# Altium footprint library MODULE_AC2DC.PcbLib: 3 footprints
Each footprint in its own frame and in the unit in brackets; x right, y up, seen from the top. Pads: shape width x height; smd on the part's side, far side on the other; paste and mask are expansions set on the pad; w line width, h text height; cw(c..) or ccw(c..) is an arc to the next point about the centre after c.
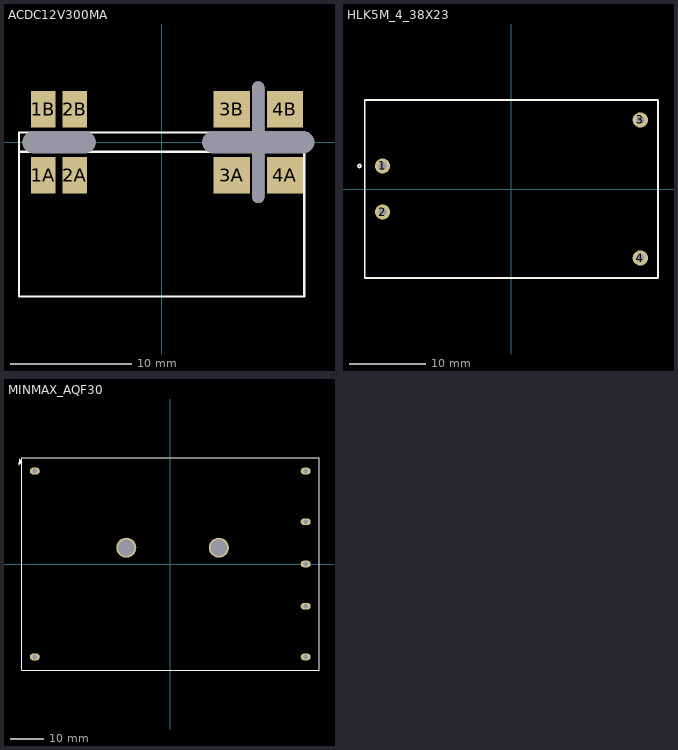
[diagram p0: the footprints below, top view; thin cyan lines are the x and y axes]

## ACDC12V300MA [mm] "ACDC, 12V, 300mA"
height 18
pads (11):
  rect 2x3 all layers, no hole: 1A(-9.75,-2.7) 1B(-9.75,2.7) 2A(-7.15,-2.7) 2B(-7.15,2.7)
  rect 3x3 all layers, no hole: 3A(5.75,-2.7) 3B(5.75,2.7) 4A(10.15,-2.7) 4B(10.15,2.7)
  oval 6x1.8 hole 1.8 slot 6 at 0 deg unplated: ""(-8.45,0)
  oval 1x10 hole 1 slot 10 at 90 deg unplated: ""(7.95,0)
  oval 9.2x1.8 hole 1.8 slot 9.2 at 0 deg unplated: ""(7.95,0)
Top Overlay:
  lines w0.2: -11.75,-0.8 11.75,-0.8 ; 11.75,-0.1 11.75,0 ; -11.75,-12.7 -11.75,0.8 11.75,0.8 11.75,-12.7 -11.75,-12.7
3D body "acdc12v300ma.step": height 15.25, standoff -2.75, extent -11.8,-12.625 11.7,2.172

## HLK5M_4_38X23 [mm] "HLK-5M AC/DC, 38X23X18mm"
height 18
pads (4):
  round 2 hole 1: 1(-16.8,3) 2(-16.8,-3) 3(16.8,9) 4(16.8,-9)
Top Overlay:
  circle w0.2: c-19.8,3 r0.2
  lines w0.2: -19.1,-11.6 19.1,-11.6 19.1,11.6 -19.1,11.6 -19.1,-11.6
3D body: height 18, standoff 0, extent -19,-11.5 19,11.5

## MINMAX_AQF30 [mm] "DC-DC Module, AQF-30"
pads (9):
  oval 3x2 hole 1.4: 1(-40.65,27.9) 2(-40.65,-27.9) 3(40.65,27.9) 4(40.65,12.7) 5(40.65,0) 6(40.65,-12.7) 7(40.65,-27.9)
  round 6 hole 5: ""(-13.2,4.9) ""(14.6,4.9)
Top Overlay:
  region: -44.4,30.6 -45.4,31.6 -45.4,29.6
  lines w0.2: -44.55,-31.9 44.65,-31.9 44.65,31.9 -44.55,31.9 -44.55,-31.9
3D body "AQF-30 3D Mechanical(PCB).stp": height 21.5, standoff -6.7, extent -44.409,-31.759 44.509,31.759